# Altium schematic symbol library MCP45HV51-103E_ST.SchLib: 1 symbol
Pins are listed as number, name and electrical type; pins without a type are passive.

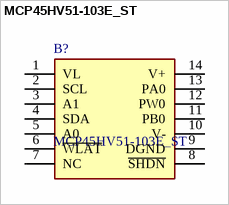
[diagram p0: symbol MCP45HV51-103E_ST]

## MCP45HV51-103E_ST
designator B?
10K Dig.Potentiometer 256 I2C VM TSSOP14 MCP45HV51-103E/ST, Digital Potentiometer 10k 256-Position Linear Serial-I2C 14-Pin TSSOP; Manufacturer_Name: Microchip; Geometry.Height: 1.2mm; Mouser Part Number: 579-MCP45HV51-103EST; Mouser Price/Stock: https://www.mouser.co.uk/ProductDetail/Microchip-Technology/MCP45HV51-103E-ST?qs=wzzOUr4NhYpIXHuCsSah1A%3D%3D; Manufacturer_Part_Number: MCP45HV51-103E/ST; Datasheet Link: http://www.microchip.com/mymicrochip/filehandler.aspx?ddocname=en569827
footprint SOP65P640X120-14N
pins: 1 VL, 2 SCL, 3 A1, 4 SDA, 5 A0, 6 ~{WLAT}, 7 NC, 8 ~{SHDN}, 9 DGND, 10 V-, 11 PB0, 12 PW0, 13 PA0, 14 V+